# Altium integrated library TI Data Converters Analog to Digital Converter.IntLib: 2197 symbols (part 79 of 168)
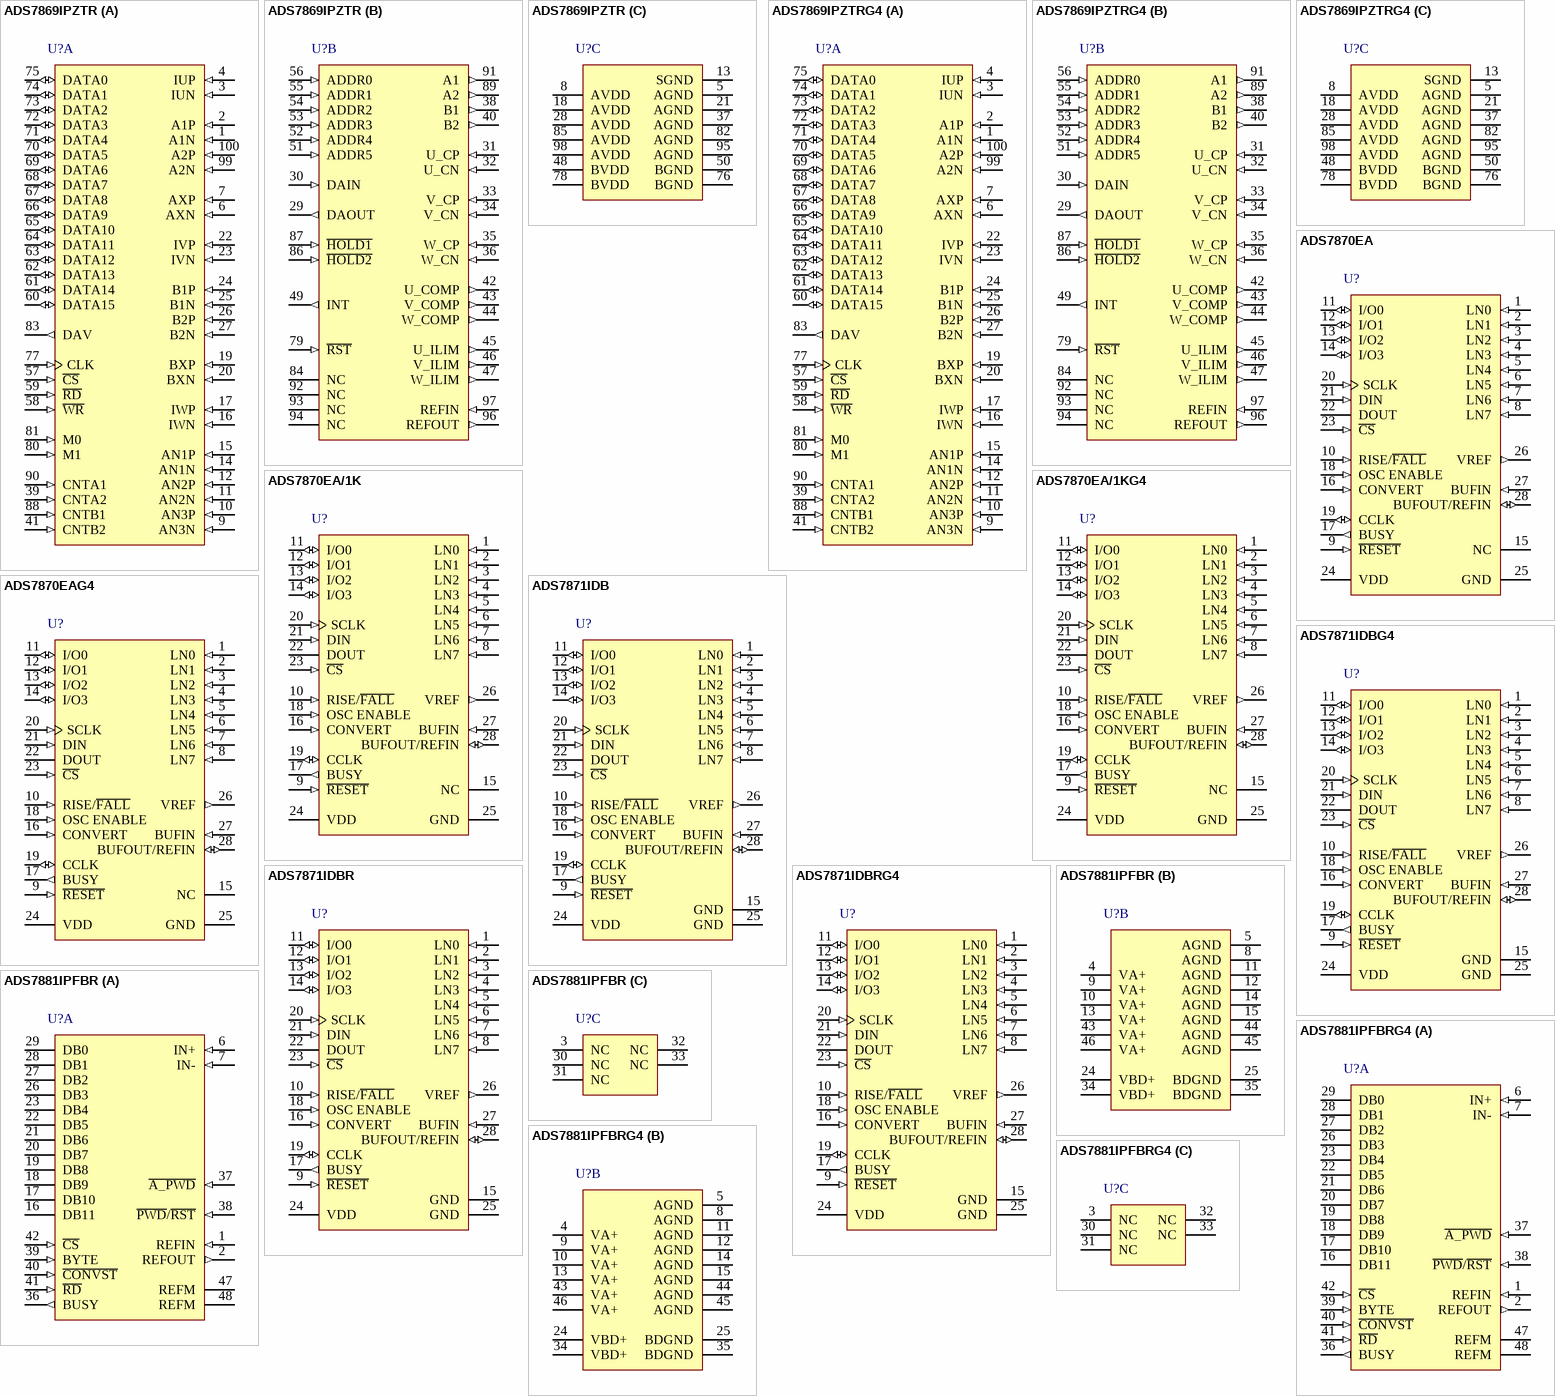
[diagram p204: symbols ADS7869IPZTR to ADS7881IPFBRG4]

## ADS7871IDBG4
designator U?
14-Bit 48 kSPS DAS with ADC, MUX, PGA and Internal Reference, -40 to 85 degC, 28-pin SOP (DB28), Green (RoHS & no Sb/Br); Manufacturer: Texas Instruments; PartNumber: ADS7871IDBG4; # Input Channels: 8; Analog Voltage AV/DD(Max)(V): 5.25; Analog Voltage AV/DD(Min)(V): 2.7; Architecture: SAR; INL(Max)(+/-LSB): 2; Interface: Serial SPI; Resolution(Bits): 14; Sample Rate (max)(SPS): 48k; SubFamily: Precision ADC (<=10MSPS); DatasheetVersion: SLAS370C; PackageVersion: 4040065/E, 12/2001; PackageReference: DB28; PackageDescription: 28-Pin Plastic Small Outline, Body 10.2 X 5.3 mm, Pitch 0.65 mm; Supplier 1: Digi-Key; Supplier Part Number 1: ADS8320EBTR-ND; Supplier 2: Digi-Key; Supplier Part Number 2: ADS8320EBCT-ND; Supplier 3: Digi-Key; Supplier Part Number 3: ADS8320EBDKR-ND; Supplier 4: Farnell; Supplier Part Number 4: 4808381; Supplier 5: Newark; Supplier Part Number 5: 35C1582; Supplier 6: Mouser; Supplier Part Number 6: 595-ADS8320EB/250; Digital Supply(Max)(V): 5.25; Digital Supply(Min)(V): 2.7; Eco-Plan: Green (RoHS & no Sb/Br); Mounting Technology: Surface Mount; Code_JEDEC: MO-150; ComponentLink1Description: Manufacturer URL; ComponentLink1URL: http://www.ti.com/; ComponentLink2Description: Datasheet; ComponentLink2URL: http://www.ti.com/general/docs/lit/getliterature.tsp?genericPartNumber=ADS7871&fileType=pdf; ComponentLink3Description: Package Specification; ComponentLink3URL: http://www.ti.com/lit/ml/msso002e/msso002e.pdf
footprint TI-DB28_N (SOP, 28-Leads, Body 10.2x5.3mm, Pitch 0.65mm, IPC Medium Density)
footprint TI-DB28_L (SOP, 28-Leads, Body 10.2x5.3mm, Pitch 0.65mm, IPC High Density)
footprint TI-DB28_M (SOP, 28-Leads, Body 10.2x5.3mm, Pitch 0.65mm, IPC Low Density)
pins: 1 LN0 (in) "MUX input lines 0", 2 LN1 (in) "MUX input lines 1", 3 LN2 (in) "MUX input lines 2", 4 LN3 (in) "MUX input lines 3", 5 LN4 (in) "MUX input lines 4", 6 LN5 (in) "MUX input lines 5", 7 LN6 (in) "MUX input lines 6", 8 LN7 (in) "MUX input lines 7", 9 ~{RESET} (in) "Master reset, zeros all registers", 10 RISE/~{FALL} (in) "Sets the active edge for SCLK. 0 sets SCLK active on falling edge. 1 sets SCLK active on rising edge.", 11 I/O0 (io) "Digital input or output signal", 12 I/O1 (io) "Digital input or output signal", 13 I/O2 (io) "Digital input or output signal", 14 I/O3 (io) "Digital input or output signal", 15 GND (power) "Connect to ground. (This pin is grounded internally on the ADS7871. It has a weak pulldown on the ADS7870).", 16 CONVERT (in) "0 to 1 transition starts a conversion cycle.", 17 BUSY (out) "1 indicates converter is busy", 18 OSC ENABLE (in) "0 sets CCLK as an input, 1 sets CCLK as an output and turns the oscillator on.", 19 CCLK (io) "If OSC ENABLE = 1, then the internal oscillator is output to this pin. If OSC ENABLE = 0, then this is the input pin for an external conversion clock.", 20 SCLK (in) "Serial data input/output transfer clock. Active edge set by the RISE/F\A\L\L\ pin. If RISE/F\A\L\L\ is low, SCLK is active on the falling edge.", 21 DIN (in) "Serial data input. In the 3-wire mode, this pin is used for serial data input. In the 2-wire mode, serial data output appears on this pin as well as the DOUT pin.", 22 DOUT (hiz) "Serial data output. This pin is driven when C\S\ is low and is high impedance when C\S\ is high. This pin behaves the same in both 3-wire and 2-wire modes.", 23 ~{CS} (in) "Chip select. When C\S\ is low, the serial interface is enabled. When C\S\ is high, the serial interface is disabled, the DOUT pin is high impedance, and the DIN pin is an input. The C\S\ pin only affects the operation of the (See Datasheet)", 24 VDD (power) "Power supply voltage, 2.7 V to 5.5 V", 25 GND (power) "Power supply ground", 26 VREF (out) "2.048-/2.5-V on-chip voltage reference", 27 BUFIN (in) "Input to reference buffer amplifier", 28 BUFOUT/REFIN (io) "Output from reference buffer amplifier and reference input to ADC"

## ADS7871IDBR
designator U?
14-Bit 48 kSPS DAS with ADC, MUX, PGA and Internal Reference, -40 to 85 degC, 28-pin SOP (DB28), Green (RoHS & no Sb/Br); Manufacturer: Texas Instruments; PartNumber: ADS7871IDBR; # Input Channels: 8; Analog Voltage AV/DD(Max)(V): 5.25; Analog Voltage AV/DD(Min)(V): 2.7; Architecture: SAR; INL(Max)(+/-LSB): 2; Interface: Serial SPI; Resolution(Bits): 14; Sample Rate (max)(SPS): 48k; SubFamily: Precision ADC (<=10MSPS); DatasheetVersion: SLAS370C; PackageVersion: 4040065/E, 12/2001; PackageReference: DB28; PackageDescription: 28-Pin Plastic Small Outline, Body 10.2 X 5.3 mm, Pitch 0.65 mm; Supplier 1: Digi-Key; Supplier Part Number 1: ADS8320EB/250G4-ND; Supplier 2: Farnell; Supplier Part Number 2: 1234644; Supplier 3: Newark; Supplier Part Number 3: 80K1180; Supplier 4: Mouser; Supplier Part Number 4: 595-ADS8320EB/250G4; Digital Supply(Max)(V): 5.25; Digital Supply(Min)(V): 2.7; Eco-Plan: Green (RoHS & no Sb/Br); Mounting Technology: Surface Mount; Code_JEDEC: MO-150; ComponentLink1Description: Manufacturer URL; ComponentLink1URL: http://www.ti.com/; ComponentLink2Description: Datasheet; ComponentLink2URL: http://www.ti.com/general/docs/lit/getliterature.tsp?genericPartNumber=ADS7871&fileType=pdf; ComponentLink3Description: Package Specification; ComponentLink3URL: http://www.ti.com/lit/ml/msso002e/msso002e.pdf
footprint TI-DB28_N (SOP, 28-Leads, Body 10.2x5.3mm, Pitch 0.65mm, IPC Medium Density)
footprint TI-DB28_L (SOP, 28-Leads, Body 10.2x5.3mm, Pitch 0.65mm, IPC High Density)
footprint TI-DB28_M (SOP, 28-Leads, Body 10.2x5.3mm, Pitch 0.65mm, IPC Low Density)
pins: 1 LN0 (in) "MUX input lines 0", 2 LN1 (in) "MUX input lines 1", 3 LN2 (in) "MUX input lines 2", 4 LN3 (in) "MUX input lines 3", 5 LN4 (in) "MUX input lines 4", 6 LN5 (in) "MUX input lines 5", 7 LN6 (in) "MUX input lines 6", 8 LN7 (in) "MUX input lines 7", 9 ~{RESET} (in) "Master reset, zeros all registers", 10 RISE/~{FALL} (in) "Sets the active edge for SCLK. 0 sets SCLK active on falling edge. 1 sets SCLK active on rising edge.", 11 I/O0 (io) "Digital input or output signal", 12 I/O1 (io) "Digital input or output signal", 13 I/O2 (io) "Digital input or output signal", 14 I/O3 (io) "Digital input or output signal", 15 GND (power) "Connect to ground. (This pin is grounded internally on the ADS7871. It has a weak pulldown on the ADS7870).", 16 CONVERT (in) "0 to 1 transition starts a conversion cycle.", 17 BUSY (out) "1 indicates converter is busy", 18 OSC ENABLE (in) "0 sets CCLK as an input, 1 sets CCLK as an output and turns the oscillator on.", 19 CCLK (io) "If OSC ENABLE = 1, then the internal oscillator is output to this pin. If OSC ENABLE = 0, then this is the input pin for an external conversion clock.", 20 SCLK (in) "Serial data input/output transfer clock. Active edge set by the RISE/F\A\L\L\ pin. If RISE/F\A\L\L\ is low, SCLK is active on the falling edge.", 21 DIN (in) "Serial data input. In the 3-wire mode, this pin is used for serial data input. In the 2-wire mode, serial data output appears on this pin as well as the DOUT pin.", 22 DOUT (hiz) "Serial data output. This pin is driven when C\S\ is low and is high impedance when C\S\ is high. This pin behaves the same in both 3-wire and 2-wire modes.", 23 ~{CS} (in) "Chip select. When C\S\ is low, the serial interface is enabled. When C\S\ is high, the serial interface is disabled, the DOUT pin is high impedance, and the DIN pin is an input. The C\S\ pin only affects the operation of the (See Datasheet)", 24 VDD (power) "Power supply voltage, 2.7 V to 5.5 V", 25 GND (power) "Power supply ground", 26 VREF (out) "2.048-/2.5-V on-chip voltage reference", 27 BUFIN (in) "Input to reference buffer amplifier", 28 BUFOUT/REFIN (io) "Output from reference buffer amplifier and reference input to ADC"

## ADS7871IDBRG4
designator U?
14-Bit 48 kSPS DAS with ADC, MUX, PGA and Internal Reference, -40 to 85 degC, 28-pin SOP (DB28), Green (RoHS & no Sb/Br); Manufacturer: Texas Instruments; PartNumber: ADS7871IDBRG4; # Input Channels: 8; Analog Voltage AV/DD(Max)(V): 5.25; Analog Voltage AV/DD(Min)(V): 2.7; Architecture: SAR; INL(Max)(+/-LSB): 2; Interface: Serial SPI; Resolution(Bits): 14; Sample Rate (max)(SPS): 48k; SubFamily: Precision ADC (<=10MSPS); DatasheetVersion: SLAS370C; PackageVersion: 4040065/E, 12/2001; PackageReference: DB28; PackageDescription: 28-Pin Plastic Small Outline, Body 10.2 X 5.3 mm, Pitch 0.65 mm; Supplier 1: Digi-Key; Supplier Part Number 1: ADS8320EB/2K5-ND; Supplier 2: Mouser; Supplier Part Number 2: 595-ADS8320EB/2K5; Digital Supply(Max)(V): 5.25; Digital Supply(Min)(V): 2.7; Eco-Plan: Green (RoHS & no Sb/Br); Mounting Technology: Surface Mount; Code_JEDEC: MO-150; ComponentLink1Description: Manufacturer URL; ComponentLink1URL: http://www.ti.com/; ComponentLink2Description: Datasheet; ComponentLink2URL: http://www.ti.com/general/docs/lit/getliterature.tsp?genericPartNumber=ADS7871&fileType=pdf; ComponentLink3Description: Package Specification; ComponentLink3URL: http://www.ti.com/lit/ml/msso002e/msso002e.pdf
footprint TI-DB28_N (SOP, 28-Leads, Body 10.2x5.3mm, Pitch 0.65mm, IPC Medium Density)
footprint TI-DB28_L (SOP, 28-Leads, Body 10.2x5.3mm, Pitch 0.65mm, IPC High Density)
footprint TI-DB28_M (SOP, 28-Leads, Body 10.2x5.3mm, Pitch 0.65mm, IPC Low Density)
pins: 1 LN0 (in) "MUX input lines 0", 2 LN1 (in) "MUX input lines 1", 3 LN2 (in) "MUX input lines 2", 4 LN3 (in) "MUX input lines 3", 5 LN4 (in) "MUX input lines 4", 6 LN5 (in) "MUX input lines 5", 7 LN6 (in) "MUX input lines 6", 8 LN7 (in) "MUX input lines 7", 9 ~{RESET} (in) "Master reset, zeros all registers", 10 RISE/~{FALL} (in) "Sets the active edge for SCLK. 0 sets SCLK active on falling edge. 1 sets SCLK active on rising edge.", 11 I/O0 (io) "Digital input or output signal", 12 I/O1 (io) "Digital input or output signal", 13 I/O2 (io) "Digital input or output signal", 14 I/O3 (io) "Digital input or output signal", 15 GND (power) "Connect to ground. (This pin is grounded internally on the ADS7871. It has a weak pulldown on the ADS7870).", 16 CONVERT (in) "0 to 1 transition starts a conversion cycle.", 17 BUSY (out) "1 indicates converter is busy", 18 OSC ENABLE (in) "0 sets CCLK as an input, 1 sets CCLK as an output and turns the oscillator on.", 19 CCLK (io) "If OSC ENABLE = 1, then the internal oscillator is output to this pin. If OSC ENABLE = 0, then this is the input pin for an external conversion clock.", 20 SCLK (in) "Serial data input/output transfer clock. Active edge set by the RISE/F\A\L\L\ pin. If RISE/F\A\L\L\ is low, SCLK is active on the falling edge.", 21 DIN (in) "Serial data input. In the 3-wire mode, this pin is used for serial data input. In the 2-wire mode, serial data output appears on this pin as well as the DOUT pin.", 22 DOUT (hiz) "Serial data output. This pin is driven when C\S\ is low and is high impedance when C\S\ is high. This pin behaves the same in both 3-wire and 2-wire modes.", 23 ~{CS} (in) "Chip select. When C\S\ is low, the serial interface is enabled. When C\S\ is high, the serial interface is disabled, the DOUT pin is high impedance, and the DIN pin is an input. The C\S\ pin only affects the operation of the (See Datasheet)", 24 VDD (power) "Power supply voltage, 2.7 V to 5.5 V", 25 GND (power) "Power supply ground", 26 VREF (out) "2.048-/2.5-V on-chip voltage reference", 27 BUFIN (in) "Input to reference buffer amplifier", 28 BUFOUT/REFIN (io) "Output from reference buffer amplifier and reference input to ADC"

## ADS7881IPFBR
designator U?
2.7 to 5.25 V Digital, 5 V Analog, 12-Bit, 4 MSPS, Parallel ADC with Reference, -40 to 85 degC, 48-pin QFP (PFB48), Green (RoHS & no Sb/Br); Manufacturer: Texas Instruments; PartNumber: ADS7881IPFBR; # Input Channels: 1; Analog Voltage AV/DD(Max)(V): 5.25; Analog Voltage AV/DD(Min)(V): 4.75; Architecture: SAR; Digital Supply(Min)(V): 2.7; Interface: Parallel CMOS; Resolution(Bits): 12; Sample Rate (max)(SPS): 4M; SFDR(dB): 90; SINAD(dB): 71.5; SubFamily: Precision ADC (<=10MSPS); DatasheetVersion: SLAS400B; PackageVersion: 4073176/B, 10/1996; PackageReference: PFB48; PackageDescription: 48-Pin Plastic Flat Pack, Body 7 x 7 mm, Pitch 0.5 mm; Supplier 1: Digi-Key; Supplier Part Number 1: ADS8320EB/2K5G4-ND; Supplier 2: Mouser; Supplier Part Number 2: 595-ADS8320EB/2K5G4; Digital Supply(Max)(V): 5.25; Eco-Plan: Green (RoHS & no Sb/Br); INL(Max)(+/-LSB): 1; SNR(dB): 71.5; Mounting Technology: Surface Mount; Code_JEDEC: MS-026; ComponentLink1Description: Manufacturer URL; ComponentLink1URL: http://www.ti.com/; ComponentLink2Description: Datasheet; ComponentLink2URL: http://www.ti.com/general/docs/lit/getliterature.tsp?genericPartNumber=ADS7881&fileType=pdf; ComponentLink3Description: Package Specification; ComponentLink3URL: http://www.ti.com/lit/ml/mtqf019a/mtqf019a.pdf
footprint TI-PFB48_N (QFP, 48-Leads, Body 7x7mm, Pitch 0.5mm, IPC Medium Density)
footprint TI-PFB48_L (QFP, 48-Leads, Body 7x7mm, Pitch 0.5mm, IPC High Density)
footprint TI-PFB48_M (QFP, 48-Leads, Body 7x7mm, Pitch 0.5mm, IPC Low Density)
part A pins: 1 REFIN (in) "Reference (positive) input. Needs to be decoupled with REFM pin using 0.1-uF bypass capacitor and 1-uF storage capacitor.", 2 REFOUT (out) "Internal reference output. To be shorted to REFIN pin when internal reference is used. Do not connect to REFIN pin when external reference is used. Always needs to be decoupled with AGND using 0.1-uF bypass capacitor.", 6 IN+ (in) "Noninverting analog input channel", 7 IN- (in) "Inverting analog input channel", 16 DB11 (hiz), 17 DB10 (hiz), 18 DB9 (hiz), 19 DB8 (hiz), 20 DB7 (hiz), 21 DB6 (hiz), 22 DB5 (hiz), 23 DB4 (hiz), 26 DB3 (hiz), 27 DB2 (hiz), 28 DB1 (hiz), 29 DB0 (hiz), 36 BUSY (out) "Status output. High when a conversion is in progress.", 37 ~{A_PWD} (in) "Nap mode enable, active low", 38 ~{PWD}/~{RST} (in) "Active low input, acts as device power down/device reset signal.", 39 BYTE (in) "Byte select input. Used for 8-bit bus reading. 0: No fold back 1: Lower byte D[3:0] is folded back to high byte so D3 is available in D11 place.", 40 ~{CONVST} (in) "Conversion start. The rising edge starts the acquisition. The falling edge of this input ends the acquisition and starts the conversion. Refer to the timing diagrams for more details.", 41 ~{RD} (in) "Active low synchronization pulse for the parallel output. When C\S\ is low, this serves as the output enable and puts the previous conversion results on the bus.", 42 ~{CS} (in) "Chip select. Active low signal enables chip operation like acquisition start, conversion start, bus release from 3-state. Refer to the timing diagrams for more details.", 47 REFM (power) "Reference ground. Connect to analog ground plane.", 48 REFM (power) "Reference ground. Connect to analog ground plane."
part B pins: 4 VA+ (power) "Analog power supplies. Refer to Table 3 for layout guidelines.", 5 AGND (power) "Analog ground pins. Short to analog ground plane below the device.", 8 AGND (power) "Analog ground pins. Short to analog ground plane below the device.", 9 VA+ (power) "Analog power supplies. Refer to Table 3 for layout guidelines.", 10 VA+ (power) "Analog power supplies. Refer to Table 3 for layout guidelines.", 11 AGND (power) "Analog ground pins. Short to analog ground plane below the device.", 12 AGND (power) "Analog ground pins. Short to analog ground plane below the device.", 13 VA+ (power) "Analog power supplies. Refer to Table 3 for layout guidelines.", 14 AGND (power) "Analog ground pins. Short to analog ground plane below the device.", 15 AGND (power) "Analog ground pins. Short to analog ground plane below the device.", 24 VBD+ (power) "Digital power supply for all digital inputs and outputs. Refer to Table 3 for layout guidelines.", 25 BDGND (power) "Digital ground for all digital inputs and outputs. Short to analog ground plane below the device", 34 VBD+ (power) "Digital power supply for all digital inputs and outputs. Refer to Table 3 for layout guidelines.", 35 BDGND (power) "Digital ground for all digital inputs and outputs. Short to analog ground plane below the device", 43 VA+ (power) "Analog power supplies. Refer to Table 3 for layout guidelines.", 44 AGND (power) "Analog ground pins. Short to analog ground plane below the device.", 45 AGND (power) "Analog ground pins. Short to analog ground plane below the device.", 46 VA+ (power) "Analog power supplies. Refer to Table 3 for layout guidelines."
part C pins: 3 NC "No connection", 30 NC "No connection", 31 NC "No connection", 32 NC "No connection", 33 NC "No connection"

## ADS7881IPFBRG4
designator U?
2.7 to 5.25 V Digital, 5 V Analog, 12-Bit, 4 MSPS, Parallel ADC with Reference, -40 to 85 degC, 48-pin QFP (PFB48), Green (RoHS & no Sb/Br); Manufacturer: Texas Instruments; PartNumber: ADS7881IPFBRG4; # Input Channels: 1; Analog Voltage AV/DD(Max)(V): 5.25; Analog Voltage AV/DD(Min)(V): 4.75; Architecture: SAR; Digital Supply(Min)(V): 2.7; Interface: Parallel CMOS; Resolution(Bits): 12; Sample Rate (max)(SPS): 4M; SFDR(dB): 90; SINAD(dB): 71.5; SubFamily: Precision ADC (<=10MSPS); DatasheetVersion: SLAS400B; PackageVersion: 4073176/B, 10/1996; PackageReference: PFB48; PackageDescription: 48-Pin Plastic Flat Pack, Body 7 x 7 mm, Pitch 0.5 mm; Supplier 1: Digi-Key; Supplier Part Number 1: ADS7834ETR-ND; Supplier 2: Digi-Key; Supplier Part Number 2: ADS7834ECT-ND; Supplier 3: Digi-Key; Supplier Part Number 3: ADS7834EDKR-ND; Supplier 4: Mouser; Supplier Part Number 4: 595-ADS7834E/250; Digital Supply(Max)(V): 5.25; Eco-Plan: Green (RoHS & no Sb/Br); INL(Max)(+/-LSB): 1; SNR(dB): 71.5; Mounting Technology: Surface Mount; Code_JEDEC: MS-026; ComponentLink1Description: Manufacturer URL; ComponentLink1URL: http://www.ti.com/; ComponentLink2Description: Datasheet; ComponentLink2URL: http://www.ti.com/general/docs/lit/getliterature.tsp?genericPartNumber=ADS7881&fileType=pdf; ComponentLink3Description: Package Specification; ComponentLink3URL: http://www.ti.com/lit/ml/mtqf019a/mtqf019a.pdf
footprint TI-PFB48_N (QFP, 48-Leads, Body 7x7mm, Pitch 0.5mm, IPC Medium Density)
footprint TI-PFB48_L (QFP, 48-Leads, Body 7x7mm, Pitch 0.5mm, IPC High Density)
footprint TI-PFB48_M (QFP, 48-Leads, Body 7x7mm, Pitch 0.5mm, IPC Low Density)
part A pins: 1 REFIN (in) "Reference (positive) input. Needs to be decoupled with REFM pin using 0.1-uF bypass capacitor and 1-uF storage capacitor.", 2 REFOUT (out) "Internal reference output. To be shorted to REFIN pin when internal reference is used. Do not connect to REFIN pin when external reference is used. Always needs to be decoupled with AGND using 0.1-uF bypass capacitor.", 6 IN+ (in) "Noninverting analog input channel", 7 IN- (in) "Inverting analog input channel", 16 DB11 (hiz), 17 DB10 (hiz), 18 DB9 (hiz), 19 DB8 (hiz), 20 DB7 (hiz), 21 DB6 (hiz), 22 DB5 (hiz), 23 DB4 (hiz), 26 DB3 (hiz), 27 DB2 (hiz), 28 DB1 (hiz), 29 DB0 (hiz), 36 BUSY (out) "Status output. High when a conversion is in progress.", 37 ~{A_PWD} (in) "Nap mode enable, active low", 38 ~{PWD}/~{RST} (in) "Active low input, acts as device power down/device reset signal.", 39 BYTE (in) "Byte select input. Used for 8-bit bus reading. 0: No fold back 1: Lower byte D[3:0] is folded back to high byte so D3 is available in D11 place.", 40 ~{CONVST} (in) "Conversion start. The rising edge starts the acquisition. The falling edge of this input ends the acquisition and starts the conversion. Refer to the timing diagrams for more details.", 41 ~{RD} (in) "Active low synchronization pulse for the parallel output. When C\S\ is low, this serves as the output enable and puts the previous conversion results on the bus.", 42 ~{CS} (in) "Chip select. Active low signal enables chip operation like acquisition start, conversion start, bus release from 3-state. Refer to the timing diagrams for more details.", 47 REFM (power) "Reference ground. Connect to analog ground plane.", 48 REFM (power) "Reference ground. Connect to analog ground plane."
part B pins: 4 VA+ (power) "Analog power supplies. Refer to Table 3 for layout guidelines.", 5 AGND (power) "Analog ground pins. Short to analog ground plane below the device.", 8 AGND (power) "Analog ground pins. Short to analog ground plane below the device.", 9 VA+ (power) "Analog power supplies. Refer to Table 3 for layout guidelines.", 10 VA+ (power) "Analog power supplies. Refer to Table 3 for layout guidelines.", 11 AGND (power) "Analog ground pins. Short to analog ground plane below the device.", 12 AGND (power) "Analog ground pins. Short to analog ground plane below the device.", 13 VA+ (power) "Analog power supplies. Refer to Table 3 for layout guidelines.", 14 AGND (power) "Analog ground pins. Short to analog ground plane below the device.", 15 AGND (power) "Analog ground pins. Short to analog ground plane below the device.", 24 VBD+ (power) "Digital power supply for all digital inputs and outputs. Refer to Table 3 for layout guidelines.", 25 BDGND (power) "Digital ground for all digital inputs and outputs. Short to analog ground plane below the device", 34 VBD+ (power) "Digital power supply for all digital inputs and outputs. Refer to Table 3 for layout guidelines.", 35 BDGND (power) "Digital ground for all digital inputs and outputs. Short to analog ground plane below the device", 43 VA+ (power) "Analog power supplies. Refer to Table 3 for layout guidelines.", 44 AGND (power) "Analog ground pins. Short to analog ground plane below the device.", 45 AGND (power) "Analog ground pins. Short to analog ground plane below the device.", 46 VA+ (power) "Analog power supplies. Refer to Table 3 for layout guidelines."
part C pins: 3 NC "No connection", 30 NC "No connection", 31 NC "No connection", 32 NC "No connection", 33 NC "No connection"

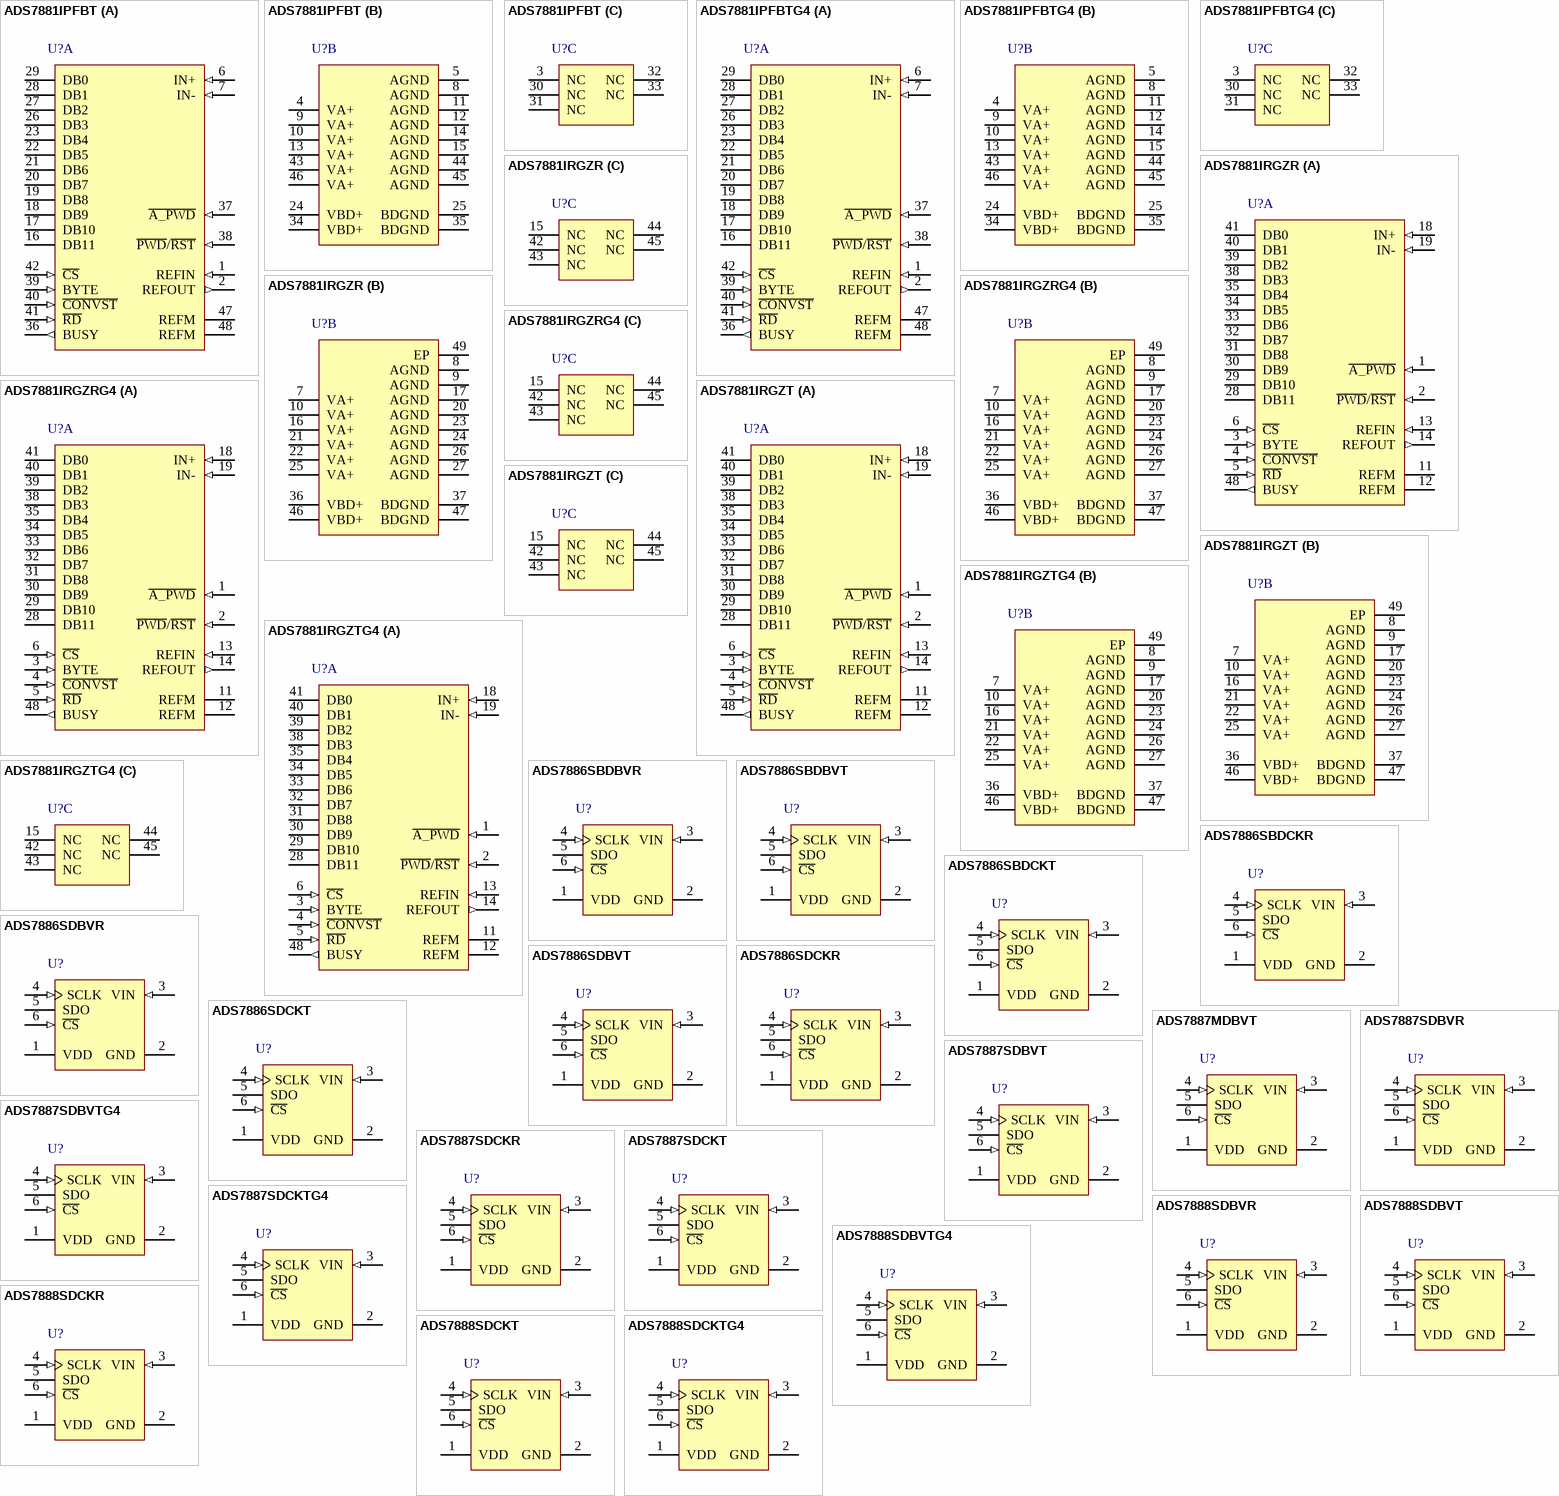
[diagram p70: symbols ADS7881IPFBT to ADS7888SDCKTG4]

## ADS7881IPFBT
designator U?
2.7 to 5.25 V Digital, 5 V Analog, 12-Bit, 4 MSPS, Parallel ADC with Reference, -40 to 85 degC, 48-pin QFP (PFB48), Green (RoHS & no Sb/Br); Manufacturer: Texas Instruments; PartNumber: ADS7881IPFBT; # Input Channels: 1; Analog Voltage AV/DD(Max)(V): 5.25; Analog Voltage AV/DD(Min)(V): 4.75; Architecture: SAR; Digital Supply(Min)(V): 2.7; Interface: Parallel CMOS; Resolution(Bits): 12; Sample Rate (max)(SPS): 4M; SFDR(dB): 90; SINAD(dB): 71.5; SubFamily: Precision ADC (<=10MSPS); DatasheetVersion: SLAS400B; PackageVersion: 4073176/B, 10/1996; PackageReference: PFB48; PackageDescription: 48-Pin Plastic Flat Pack, Body 7 x 7 mm, Pitch 0.5 mm; Supplier 1: Digi-Key; Supplier Part Number 1: ADS7834E/250G4-ND; Supplier 2: Mouser; Supplier Part Number 2: 595-ADS7834E/250G4; Digital Supply(Max)(V): 5.25; Eco-Plan: Green (RoHS & no Sb/Br); INL(Max)(+/-LSB): 1; SNR(dB): 71.5; Mounting Technology: Surface Mount; Code_JEDEC: MS-026; ComponentLink1Description: Manufacturer URL; ComponentLink1URL: http://www.ti.com/; ComponentLink2Description: Datasheet; ComponentLink2URL: http://www.ti.com/general/docs/lit/getliterature.tsp?genericPartNumber=ADS7881&fileType=pdf; ComponentLink3Description: Package Specification; ComponentLink3URL: http://www.ti.com/lit/ml/mtqf019a/mtqf019a.pdf
footprint TI-PFB48_N (QFP, 48-Leads, Body 7x7mm, Pitch 0.5mm, IPC Medium Density)
footprint TI-PFB48_L (QFP, 48-Leads, Body 7x7mm, Pitch 0.5mm, IPC High Density)
footprint TI-PFB48_M (QFP, 48-Leads, Body 7x7mm, Pitch 0.5mm, IPC Low Density)
part A pins: 1 REFIN (in) "Reference (positive) input. Needs to be decoupled with REFM pin using 0.1-uF bypass capacitor and 1-uF storage capacitor.", 2 REFOUT (out) "Internal reference output. To be shorted to REFIN pin when internal reference is used. Do not connect to REFIN pin when external reference is used. Always needs to be decoupled with AGND using 0.1-uF bypass capacitor.", 6 IN+ (in) "Noninverting analog input channel", 7 IN- (in) "Inverting analog input channel", 16 DB11 (hiz), 17 DB10 (hiz), 18 DB9 (hiz), 19 DB8 (hiz), 20 DB7 (hiz), 21 DB6 (hiz), 22 DB5 (hiz), 23 DB4 (hiz), 26 DB3 (hiz), 27 DB2 (hiz), 28 DB1 (hiz), 29 DB0 (hiz), 36 BUSY (out) "Status output. High when a conversion is in progress.", 37 ~{A_PWD} (in) "Nap mode enable, active low", 38 ~{PWD}/~{RST} (in) "Active low input, acts as device power down/device reset signal.", 39 BYTE (in) "Byte select input. Used for 8-bit bus reading. 0: No fold back 1: Lower byte D[3:0] is folded back to high byte so D3 is available in D11 place.", 40 ~{CONVST} (in) "Conversion start. The rising edge starts the acquisition. The falling edge of this input ends the acquisition and starts the conversion. Refer to the timing diagrams for more details.", 41 ~{RD} (in) "Active low synchronization pulse for the parallel output. When C\S\ is low, this serves as the output enable and puts the previous conversion results on the bus.", 42 ~{CS} (in) "Chip select. Active low signal enables chip operation like acquisition start, conversion start, bus release from 3-state. Refer to the timing diagrams for more details.", 47 REFM (power) "Reference ground. Connect to analog ground plane.", 48 REFM (power) "Reference ground. Connect to analog ground plane."
part B pins: 4 VA+ (power) "Analog power supplies. Refer to Table 3 for layout guidelines.", 5 AGND (power) "Analog ground pins. Short to analog ground plane below the device.", 8 AGND (power) "Analog ground pins. Short to analog ground plane below the device.", 9 VA+ (power) "Analog power supplies. Refer to Table 3 for layout guidelines.", 10 VA+ (power) "Analog power supplies. Refer to Table 3 for layout guidelines.", 11 AGND (power) "Analog ground pins. Short to analog ground plane below the device.", 12 AGND (power) "Analog ground pins. Short to analog ground plane below the device.", 13 VA+ (power) "Analog power supplies. Refer to Table 3 for layout guidelines.", 14 AGND (power) "Analog ground pins. Short to analog ground plane below the device.", 15 AGND (power) "Analog ground pins. Short to analog ground plane below the device.", 24 VBD+ (power) "Digital power supply for all digital inputs and outputs. Refer to Table 3 for layout guidelines.", 25 BDGND (power) "Digital ground for all digital inputs and outputs. Short to analog ground plane below the device", 34 VBD+ (power) "Digital power supply for all digital inputs and outputs. Refer to Table 3 for layout guidelines.", 35 BDGND (power) "Digital ground for all digital inputs and outputs. Short to analog ground plane below the device", 43 VA+ (power) "Analog power supplies. Refer to Table 3 for layout guidelines.", 44 AGND (power) "Analog ground pins. Short to analog ground plane below the device.", 45 AGND (power) "Analog ground pins. Short to analog ground plane below the device.", 46 VA+ (power) "Analog power supplies. Refer to Table 3 for layout guidelines."
part C pins: 3 NC "No connection", 30 NC "No connection", 31 NC "No connection", 32 NC "No connection", 33 NC "No connection"

## ADS7881IPFBTG4
designator U?
2.7 to 5.25 V Digital, 5 V Analog, 12-Bit, 4 MSPS, Parallel ADC with Reference, -40 to 85 degC, 48-pin QFP (PFB48), Green (RoHS & no Sb/Br); Manufacturer: Texas Instruments; PartNumber: ADS7881IPFBTG4; # Input Channels: 1; Analog Voltage AV/DD(Max)(V): 5.25; Analog Voltage AV/DD(Min)(V): 4.75; Architecture: SAR; Digital Supply(Min)(V): 2.7; Interface: Parallel CMOS; Resolution(Bits): 12; Sample Rate (max)(SPS): 4M; SFDR(dB): 90; SINAD(dB): 71.5; SubFamily: Precision ADC (<=10MSPS); DatasheetVersion: SLAS400B; PackageVersion: 4073176/B, 10/1996; PackageReference: PFB48; PackageDescription: 48-Pin Plastic Flat Pack, Body 7 x 7 mm, Pitch 0.5 mm; Supplier 1: Digi-Key; Supplier Part Number 1: ADS7834E/2K5-ND; Supplier 2: Mouser; Supplier Part Number 2: 595-ADS7834E/2K5; Digital Supply(Max)(V): 5.25; Eco-Plan: Green (RoHS & no Sb/Br); INL(Max)(+/-LSB): 1; SNR(dB): 71.5; Mounting Technology: Surface Mount; Code_JEDEC: MS-026; ComponentLink1Description: Manufacturer URL; ComponentLink1URL: http://www.ti.com/; ComponentLink2Description: Datasheet; ComponentLink2URL: http://www.ti.com/general/docs/lit/getliterature.tsp?genericPartNumber=ADS7881&fileType=pdf; ComponentLink3Description: Package Specification; ComponentLink3URL: http://www.ti.com/lit/ml/mtqf019a/mtqf019a.pdf
footprint TI-PFB48_N (QFP, 48-Leads, Body 7x7mm, Pitch 0.5mm, IPC Medium Density)
footprint TI-PFB48_L (QFP, 48-Leads, Body 7x7mm, Pitch 0.5mm, IPC High Density)
footprint TI-PFB48_M (QFP, 48-Leads, Body 7x7mm, Pitch 0.5mm, IPC Low Density)
part A pins: 1 REFIN (in) "Reference (positive) input. Needs to be decoupled with REFM pin using 0.1-uF bypass capacitor and 1-uF storage capacitor.", 2 REFOUT (out) "Internal reference output. To be shorted to REFIN pin when internal reference is used. Do not connect to REFIN pin when external reference is used. Always needs to be decoupled with AGND using 0.1-uF bypass capacitor.", 6 IN+ (in) "Noninverting analog input channel", 7 IN- (in) "Inverting analog input channel", 16 DB11 (hiz), 17 DB10 (hiz), 18 DB9 (hiz), 19 DB8 (hiz), 20 DB7 (hiz), 21 DB6 (hiz), 22 DB5 (hiz), 23 DB4 (hiz), 26 DB3 (hiz), 27 DB2 (hiz), 28 DB1 (hiz), 29 DB0 (hiz), 36 BUSY (out) "Status output. High when a conversion is in progress.", 37 ~{A_PWD} (in) "Nap mode enable, active low", 38 ~{PWD}/~{RST} (in) "Active low input, acts as device power down/device reset signal.", 39 BYTE (in) "Byte select input. Used for 8-bit bus reading. 0: No fold back 1: Lower byte D[3:0] is folded back to high byte so D3 is available in D11 place.", 40 ~{CONVST} (in) "Conversion start. The rising edge starts the acquisition. The falling edge of this input ends the acquisition and starts the conversion. Refer to the timing diagrams for more details.", 41 ~{RD} (in) "Active low synchronization pulse for the parallel output. When C\S\ is low, this serves as the output enable and puts the previous conversion results on the bus.", 42 ~{CS} (in) "Chip select. Active low signal enables chip operation like acquisition start, conversion start, bus release from 3-state. Refer to the timing diagrams for more details.", 47 REFM (power) "Reference ground. Connect to analog ground plane.", 48 REFM (power) "Reference ground. Connect to analog ground plane."
part B pins: 4 VA+ (power) "Analog power supplies. Refer to Table 3 for layout guidelines.", 5 AGND (power) "Analog ground pins. Short to analog ground plane below the device.", 8 AGND (power) "Analog ground pins. Short to analog ground plane below the device.", 9 VA+ (power) "Analog power supplies. Refer to Table 3 for layout guidelines.", 10 VA+ (power) "Analog power supplies. Refer to Table 3 for layout guidelines.", 11 AGND (power) "Analog ground pins. Short to analog ground plane below the device.", 12 AGND (power) "Analog ground pins. Short to analog ground plane below the device.", 13 VA+ (power) "Analog power supplies. Refer to Table 3 for layout guidelines.", 14 AGND (power) "Analog ground pins. Short to analog ground plane below the device.", 15 AGND (power) "Analog ground pins. Short to analog ground plane below the device.", 24 VBD+ (power) "Digital power supply for all digital inputs and outputs. Refer to Table 3 for layout guidelines.", 25 BDGND (power) "Digital ground for all digital inputs and outputs. Short to analog ground plane below the device", 34 VBD+ (power) "Digital power supply for all digital inputs and outputs. Refer to Table 3 for layout guidelines.", 35 BDGND (power) "Digital ground for all digital inputs and outputs. Short to analog ground plane below the device", 43 VA+ (power) "Analog power supplies. Refer to Table 3 for layout guidelines.", 44 AGND (power) "Analog ground pins. Short to analog ground plane below the device.", 45 AGND (power) "Analog ground pins. Short to analog ground plane below the device.", 46 VA+ (power) "Analog power supplies. Refer to Table 3 for layout guidelines."
part C pins: 3 NC "No connection", 30 NC "No connection", 31 NC "No connection", 32 NC "No connection", 33 NC "No connection"

## ADS7881IRGZR
designator U?
2.7 to 5.25 V Digital, 5 V Analog, 12-Bit, 4 MSPS, Parallel ADC with Reference, -40 to 85 degC, 48-pin QFN (RGZ48), Green (RoHS & no Sb/Br); Manufacturer: Texas Instruments; PartNumber: ADS7881IRGZR; # Input Channels: 1; Analog Voltage AV/DD(Max)(V): 5.25; Analog Voltage AV/DD(Min)(V): 4.75; Architecture: SAR; Digital Supply(Min)(V): 2.7; Interface: Parallel CMOS; Resolution(Bits): 12; Sample Rate (max)(SPS): 4M; SFDR(dB): 90; SINAD(dB): 71.5; SubFamily: Precision ADC (<=10MSPS); DatasheetVersion: SLAS400B; PackageVersion: 4204101/F, 06/2011; PackageReference: RGZ48-5150X5150TP; PackageDescription: 48-Pin Plastic Flat Pack, Body 7 x 7 mm, Pitch 0.5 mm; Supplier 1: Digi-Key; Supplier Part Number 1: ADS7834E/2K5G4-ND; Supplier 2: Mouser; Supplier Part Number 2: 595-ADS7834E/2K5G4; Digital Supply(Max)(V): 5.25; Eco-Plan: Green (RoHS & no Sb/Br); INL(Max)(+/-LSB): 1; SNR(dB): 71.5; Mounting Technology: Surface Mount; Code_JEDEC: MO-220; ComponentLink1Description: Manufacturer URL; ComponentLink1URL: http://www.ti.com/; ComponentLink2Description: Datasheet; ComponentLink2URL: http://www.ti.com/general/docs/lit/getliterature.tsp?genericPartNumber=ADS7881&fileType=pdf; ComponentLink3Description: Package Specification; ComponentLink3URL: http://www.ti.com/lit/ml/mpqf123e/mpqf123e.pdf
footprint TI-RGZ48-5150X5150TP_V (QFN, 48-Leads, Body 7x7mm, Pitch 0.5mm, Thermal Pad 5.15x5.15mm, TI Recommended)
part A pins: 1 ~{A_PWD} (in) "Nap mode enable, active low", 2 ~{PWD}/~{RST} (in) "Active low input, acts as device power down/device reset signal.", 3 BYTE (in) "Byte select input. Used for 8-bit bus reading.", 4 ~{CONVST} (in) "Conversion start. The rising edge starts the acquisition. The falling edge of this input ends the acquisition and starts the conversion. Refer to the timing diagrams for more details.", 5 ~{RD} (in) "Active low synchronization pulse for the parallel output. When C\S\ is low, this serves as the output enable and puts the previous conversion results on the bus.", 6 ~{CS} (in) "Chip select. Active low signal enables chip operation like acquisition start, conversion start, bus release from 3-state. Refer to the timing diagrams for more details.", 11 REFM (power) "Reference ground. Connect to analog ground plane.", 12 REFM (power) "Reference ground. Connect to analog ground plane.", 13 REFIN (in) "Reference (positive) input. Needs to be decoupled with REFM pin using 0.1-uF bypass capacitor and 1-uF storage capacitor.", 14 REFOUT (out) "Internal reference output. To be shorted to REFIN pin when internal reference is used. Do not connect to REFIN pin when external reference is used. Always needs to be decoupled with AGND using 0.1-uF bypass capacitor.", 18 IN+ (in) "Noninverting analog input channel", 19 IN- (in) "Inverting analog input channel", 28 DB11 (hiz), 29 DB10 (hiz), 30 DB9 (hiz), 31 DB8 (hiz), 32 DB7 (hiz), 33 DB6 (hiz), 34 DB5 (hiz), 35 DB4 (hiz), 38 DB3 (hiz), 39 DB2 (hiz), 40 DB1 (hiz), 41 DB0 (hiz), 48 BUSY (out) "Status output. High when a conversion is in progress."
part B pins: 7 VA+ (power) "Analog power supplies. Refer to Table 3 for layout guidelines.", 8 AGND (power) "Analog ground pins. Short to analog ground plane below the device.", 9 AGND (power) "Analog ground pins. Short to analog ground plane below the device.", 10 VA+ (power) "Analog power supplies. Refer to Table 3 for layout guidelines.", 16 VA+ (power) "Analog power supplies. Refer to Table 3 for layout guidelines.", 17 AGND (power) "Analog ground pins. Short to analog ground plane below the device.", 20 AGND (power) "Analog ground pins. Short to analog ground plane below the device.", 21 VA+ (power) "Analog power supplies. Refer to Table 3 for layout guidelines.", 22 VA+ (power) "Analog power supplies. Refer to Table 3 for layout guidelines.", 23 AGND (power) "Analog ground pins. Short to analog ground plane below the device.", 24 AGND (power) "Analog ground pins. Short to analog ground plane below the device.", 25 VA+ (power) "Analog power supplies. Refer to Table 3 for layout guidelines.", 26 AGND (power) "Analog ground pins. Short to analog ground plane below the device.", 27 AGND (power) "Analog ground pins. Short to analog ground plane below the device.", 36 VBD+ (power) "Digital power supply for all digital inputs and outputs. Refer to Table 3 for layout guidelines.", 37 BDGND (power) "Digital ground for all digital inputs and outputs. Short to analog ground plane below the device.", 46 VBD+ (power) "Digital power supply for all digital inputs and outputs. Refer to Table 3 for layout guidelines.", 47 BDGND (power) "Digital ground for all digital inputs and outputs. Short to analog ground plane below the device.", 49 EP
part C pins: 15 NC "No connection", 42 NC "No connection", 43 NC "No connection", 44 NC "No connection", 45 NC "No connection"

## ADS7881IRGZRG4
designator U?
2.7 to 5.25 V Digital, 5 V Analog, 12-Bit, 4 MSPS, Parallel ADC with Reference, -40 to 85 degC, 48-pin QFN (RGZ48), Green (RoHS & no Sb/Br); Manufacturer: Texas Instruments; PartNumber: ADS7881IRGZRG4; # Input Channels: 1; Analog Voltage AV/DD(Max)(V): 5.25; Analog Voltage AV/DD(Min)(V): 4.75; Architecture: SAR; Digital Supply(Min)(V): 2.7; Interface: Parallel CMOS; Resolution(Bits): 12; Sample Rate (max)(SPS): 4M; SFDR(dB): 90; SINAD(dB): 71.5; SubFamily: Precision ADC (<=10MSPS); DatasheetVersion: SLAS400B; PackageVersion: 4204101/F, 06/2011; PackageReference: RGZ48-5150X5150TP; PackageDescription: 48-Pin Plastic Flat Pack, Body 7 x 7 mm, Pitch 0.5 mm; Supplier 1: Digi-Key; Supplier Part Number 1: ADS7834EBTR-ND; Supplier 2: Digi-Key; Supplier Part Number 2: ADS7834EBCT-ND; Supplier 3: Digi-Key; Supplier Part Number 3: ADS7834EBDKR-ND; Supplier 4: Mouser; Supplier Part Number 4: 595-ADS7834EB/250; Digital Supply(Max)(V): 5.25; Eco-Plan: Green (RoHS & no Sb/Br); INL(Max)(+/-LSB): 1; SNR(dB): 71.5; Mounting Technology: Surface Mount; Code_JEDEC: MO-220; ComponentLink1Description: Manufacturer URL; ComponentLink1URL: http://www.ti.com/; ComponentLink2Description: Datasheet; ComponentLink2URL: http://www.ti.com/general/docs/lit/getliterature.tsp?genericPartNumber=ADS7881&fileType=pdf; ComponentLink3Description: Package Specification; ComponentLink3URL: http://www.ti.com/lit/ml/mpqf123e/mpqf123e.pdf
footprint TI-RGZ48-5150X5150TP_V (QFN, 48-Leads, Body 7x7mm, Pitch 0.5mm, Thermal Pad 5.15x5.15mm, TI Recommended)
part A pins: 1 ~{A_PWD} (in) "Nap mode enable, active low", 2 ~{PWD}/~{RST} (in) "Active low input, acts as device power down/device reset signal.", 3 BYTE (in) "Byte select input. Used for 8-bit bus reading.", 4 ~{CONVST} (in) "Conversion start. The rising edge starts the acquisition. The falling edge of this input ends the acquisition and starts the conversion. Refer to the timing diagrams for more details.", 5 ~{RD} (in) "Active low synchronization pulse for the parallel output. When C\S\ is low, this serves as the output enable and puts the previous conversion results on the bus.", 6 ~{CS} (in) "Chip select. Active low signal enables chip operation like acquisition start, conversion start, bus release from 3-state. Refer to the timing diagrams for more details.", 11 REFM (power) "Reference ground. Connect to analog ground plane.", 12 REFM (power) "Reference ground. Connect to analog ground plane.", 13 REFIN (in) "Reference (positive) input. Needs to be decoupled with REFM pin using 0.1-uF bypass capacitor and 1-uF storage capacitor.", 14 REFOUT (out) "Internal reference output. To be shorted to REFIN pin when internal reference is used. Do not connect to REFIN pin when external reference is used. Always needs to be decoupled with AGND using 0.1-uF bypass capacitor.", 18 IN+ (in) "Noninverting analog input channel", 19 IN- (in) "Inverting analog input channel", 28 DB11 (hiz), 29 DB10 (hiz), 30 DB9 (hiz), 31 DB8 (hiz), 32 DB7 (hiz), 33 DB6 (hiz), 34 DB5 (hiz), 35 DB4 (hiz), 38 DB3 (hiz), 39 DB2 (hiz), 40 DB1 (hiz), 41 DB0 (hiz), 48 BUSY (out) "Status output. High when a conversion is in progress."
part B pins: 7 VA+ (power) "Analog power supplies. Refer to Table 3 for layout guidelines.", 8 AGND (power) "Analog ground pins. Short to analog ground plane below the device.", 9 AGND (power) "Analog ground pins. Short to analog ground plane below the device.", 10 VA+ (power) "Analog power supplies. Refer to Table 3 for layout guidelines.", 16 VA+ (power) "Analog power supplies. Refer to Table 3 for layout guidelines.", 17 AGND (power) "Analog ground pins. Short to analog ground plane below the device.", 20 AGND (power) "Analog ground pins. Short to analog ground plane below the device.", 21 VA+ (power) "Analog power supplies. Refer to Table 3 for layout guidelines.", 22 VA+ (power) "Analog power supplies. Refer to Table 3 for layout guidelines.", 23 AGND (power) "Analog ground pins. Short to analog ground plane below the device.", 24 AGND (power) "Analog ground pins. Short to analog ground plane below the device.", 25 VA+ (power) "Analog power supplies. Refer to Table 3 for layout guidelines.", 26 AGND (power) "Analog ground pins. Short to analog ground plane below the device.", 27 AGND (power) "Analog ground pins. Short to analog ground plane below the device.", 36 VBD+ (power) "Digital power supply for all digital inputs and outputs. Refer to Table 3 for layout guidelines.", 37 BDGND (power) "Digital ground for all digital inputs and outputs. Short to analog ground plane below the device.", 46 VBD+ (power) "Digital power supply for all digital inputs and outputs. Refer to Table 3 for layout guidelines.", 47 BDGND (power) "Digital ground for all digital inputs and outputs. Short to analog ground plane below the device.", 49 EP
part C pins: 15 NC "No connection", 42 NC "No connection", 43 NC "No connection", 44 NC "No connection", 45 NC "No connection"

## ADS7881IRGZT
designator U?
2.7 to 5.25 V Digital, 5 V Analog, 12-Bit, 4 MSPS, Parallel ADC with Reference, -40 to 85 degC, 48-pin QFN (RGZ48), Green (RoHS & no Sb/Br); Manufacturer: Texas Instruments; PartNumber: ADS7881IRGZT; # Input Channels: 1; Analog Voltage AV/DD(Max)(V): 5.25; Analog Voltage AV/DD(Min)(V): 4.75; Architecture: SAR; Digital Supply(Min)(V): 2.7; Interface: Parallel CMOS; Resolution(Bits): 12; Sample Rate (max)(SPS): 4M; SFDR(dB): 90; SINAD(dB): 71.5; SubFamily: Precision ADC (<=10MSPS); DatasheetVersion: SLAS400B; PackageVersion: 4204101/F, 06/2011; PackageReference: RGZ48-5150X5150TP; PackageDescription: 48-Pin Plastic Flat Pack, Body 7 x 7 mm, Pitch 0.5 mm; Supplier 1: Digi-Key; Supplier Part Number 1: ADS7834EB/250G4-ND; Supplier 2: Newark; Supplier Part Number 2: 80K1170; Supplier 3: Mouser; Supplier Part Number 3: 595-ADS7834EB/250G4; Digital Supply(Max)(V): 5.25; Eco-Plan: Green (RoHS & no Sb/Br); INL(Max)(+/-LSB): 1; SNR(dB): 71.5; Mounting Technology: Surface Mount; Code_JEDEC: MO-220; ComponentLink1Description: Manufacturer URL; ComponentLink1URL: http://www.ti.com/; ComponentLink2Description: Datasheet; ComponentLink2URL: http://www.ti.com/general/docs/lit/getliterature.tsp?genericPartNumber=ADS7881&fileType=pdf; ComponentLink3Description: Package Specification; ComponentLink3URL: http://www.ti.com/lit/ml/mpqf123e/mpqf123e.pdf
footprint TI-RGZ48-5150X5150TP_V (QFN, 48-Leads, Body 7x7mm, Pitch 0.5mm, Thermal Pad 5.15x5.15mm, TI Recommended)
part A pins: 1 ~{A_PWD} (in) "Nap mode enable, active low", 2 ~{PWD}/~{RST} (in) "Active low input, acts as device power down/device reset signal.", 3 BYTE (in) "Byte select input. Used for 8-bit bus reading.", 4 ~{CONVST} (in) "Conversion start. The rising edge starts the acquisition. The falling edge of this input ends the acquisition and starts the conversion. Refer to the timing diagrams for more details.", 5 ~{RD} (in) "Active low synchronization pulse for the parallel output. When C\S\ is low, this serves as the output enable and puts the previous conversion results on the bus.", 6 ~{CS} (in) "Chip select. Active low signal enables chip operation like acquisition start, conversion start, bus release from 3-state. Refer to the timing diagrams for more details.", 11 REFM (power) "Reference ground. Connect to analog ground plane.", 12 REFM (power) "Reference ground. Connect to analog ground plane.", 13 REFIN (in) "Reference (positive) input. Needs to be decoupled with REFM pin using 0.1-uF bypass capacitor and 1-uF storage capacitor.", 14 REFOUT (out) "Internal reference output. To be shorted to REFIN pin when internal reference is used. Do not connect to REFIN pin when external reference is used. Always needs to be decoupled with AGND using 0.1-uF bypass capacitor.", 18 IN+ (in) "Noninverting analog input channel", 19 IN- (in) "Inverting analog input channel", 28 DB11 (hiz), 29 DB10 (hiz), 30 DB9 (hiz), 31 DB8 (hiz), 32 DB7 (hiz), 33 DB6 (hiz), 34 DB5 (hiz), 35 DB4 (hiz), 38 DB3 (hiz), 39 DB2 (hiz), 40 DB1 (hiz), 41 DB0 (hiz), 48 BUSY (out) "Status output. High when a conversion is in progress."
part B pins: 7 VA+ (power) "Analog power supplies. Refer to Table 3 for layout guidelines.", 8 AGND (power) "Analog ground pins. Short to analog ground plane below the device.", 9 AGND (power) "Analog ground pins. Short to analog ground plane below the device.", 10 VA+ (power) "Analog power supplies. Refer to Table 3 for layout guidelines.", 16 VA+ (power) "Analog power supplies. Refer to Table 3 for layout guidelines.", 17 AGND (power) "Analog ground pins. Short to analog ground plane below the device.", 20 AGND (power) "Analog ground pins. Short to analog ground plane below the device.", 21 VA+ (power) "Analog power supplies. Refer to Table 3 for layout guidelines.", 22 VA+ (power) "Analog power supplies. Refer to Table 3 for layout guidelines.", 23 AGND (power) "Analog ground pins. Short to analog ground plane below the device.", 24 AGND (power) "Analog ground pins. Short to analog ground plane below the device.", 25 VA+ (power) "Analog power supplies. Refer to Table 3 for layout guidelines.", 26 AGND (power) "Analog ground pins. Short to analog ground plane below the device.", 27 AGND (power) "Analog ground pins. Short to analog ground plane below the device.", 36 VBD+ (power) "Digital power supply for all digital inputs and outputs. Refer to Table 3 for layout guidelines.", 37 BDGND (power) "Digital ground for all digital inputs and outputs. Short to analog ground plane below the device.", 46 VBD+ (power) "Digital power supply for all digital inputs and outputs. Refer to Table 3 for layout guidelines.", 47 BDGND (power) "Digital ground for all digital inputs and outputs. Short to analog ground plane below the device.", 49 EP
part C pins: 15 NC "No connection", 42 NC "No connection", 43 NC "No connection", 44 NC "No connection", 45 NC "No connection"